# EAGLE library part TA7291P (library FABLAB_Kamakura)
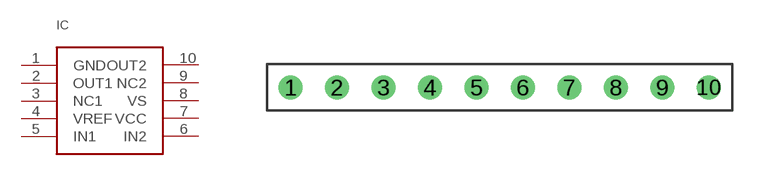
[diagram p2: symbol with the pads of HSIP10_P_2.54; footprint HSIP10_P_2.54]

Designator prefix IC

## TA7291P  [HSIP10_P_2.54]
1  GND
2  OUT1
3  NC1
4  VREF
5  IN1
6  IN2
7  VCC
8  VS
9  NC2
10  OUT2

## Footprint HSIP10_P_2.54 (pad centres in mm)
drill 0.8: 1 -11.43,0; 2 -8.89,0; 3 -6.35,0; 4 -3.81,0; 5 -1.27,0; 6 1.27,0; 7 3.81,0; 8 6.35,0; 9 8.89,0; 10 11.43,0